# EAGLE library part LTC3769 (library LTC3769)
Boost Controller 60V Low IQ Synchronous http://cds.linear.com/docs/en/datasheet/3769f.pdf
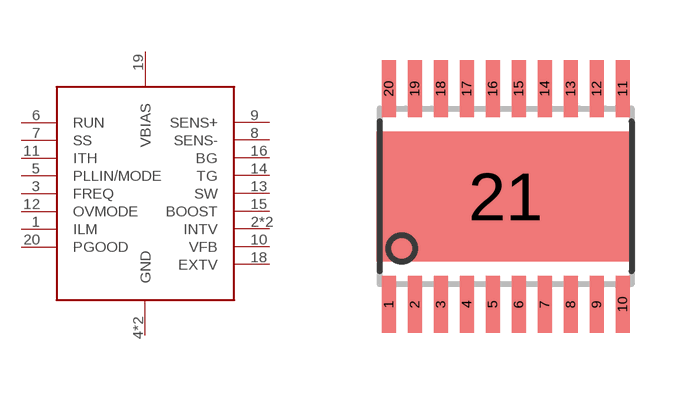
[diagram p1: symbol with the pads of TSSOP-20; footprint TSSOP-20]

Designator prefix -

## LTC3769  [TSSOP-20]
1  ILM
2  INTV
3  FREQ
4  GND
5  PLLIN/MODE
6  RUN
7  SS
8  SENS-
9  SENS+
10  VFB
11  ITH
12  OVMODE
13  SW
14  TG
15  BOOST
16  BG
17  INTV
18  EXTV
19  VBIAS
20  PGOOD
21  GND

## Footprint TSSOP-20 (pad centres in mm)
Pad size: 0.35 x 1.43 mm Pad pitch: 0.65 mm Pad lateral pitch: 5.4 mm
smd 0.35 x 1.43: 1 -2.925,-2.7; 2 -2.275,-2.7; 3 -1.625,-2.7; 4 -0.975,-2.7; 5 -0.325,-2.7; 6 0.325,-2.7; 7 0.975,-2.7; 8 1.625,-2.7; 9 2.275,-2.7; 10 2.925,-2.7; 11 2.925,2.7; 12 2.275,2.7; 13 1.625,2.7; 14 0.975,2.7; 15 0.325,2.7; 16 -0.325,2.7; 17 -0.975,2.7; 18 -1.625,2.7; 19 -2.275,2.7; 20 -2.925,2.7
smd 6.452 x 3.251: 21 0,0